# Altium schematic symbol library resistor 10KF.SchLib: 1 symbol
Pins are listed as number, name and electrical type; pins without a type are passive.

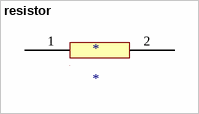
[diagram p0: symbol resistor]

## resistor
designator *
pins: 1 21, 2 20